# EAGLE library part 2X9 (library headers(2mm))
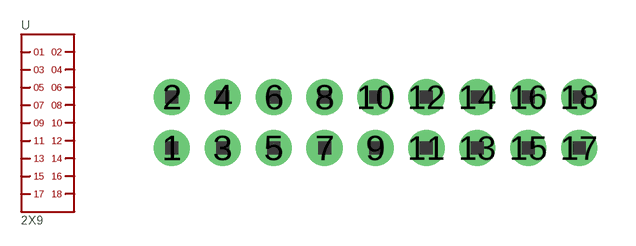
[diagram p9: symbol with the pads of 2X9; footprint 2X9]

Designator prefix -

## 2X9  [2X9]
1  1
2  2
3  3
4  4
5  5
6  6
7  7
8  8
9  9
10  10
11  11
12  12
13  13
14  14
15  15
16  16
17  17
18  18

## Footprint 2X9 (pad centres in mm)
drill 0.8 pad 1.422: 1 -8,-1; 2 -8,1; 3 -6,-1; 4 -6,1; 5 -4,-1; 6 -4,1; 7 -2,-1; 8 -2,1; 9 0,-1; 10 0,1; 11 2,-1; 12 2,1; 13 4,-1; 14 4,1; 15 6,-1; 16 6,1; 17 8,-1; 18 8,1